# EAGLE library part BEAGLEBONE_CAPE (library beaglebone_cape)
Pin Header and Outlines for BeagleBone Black shield
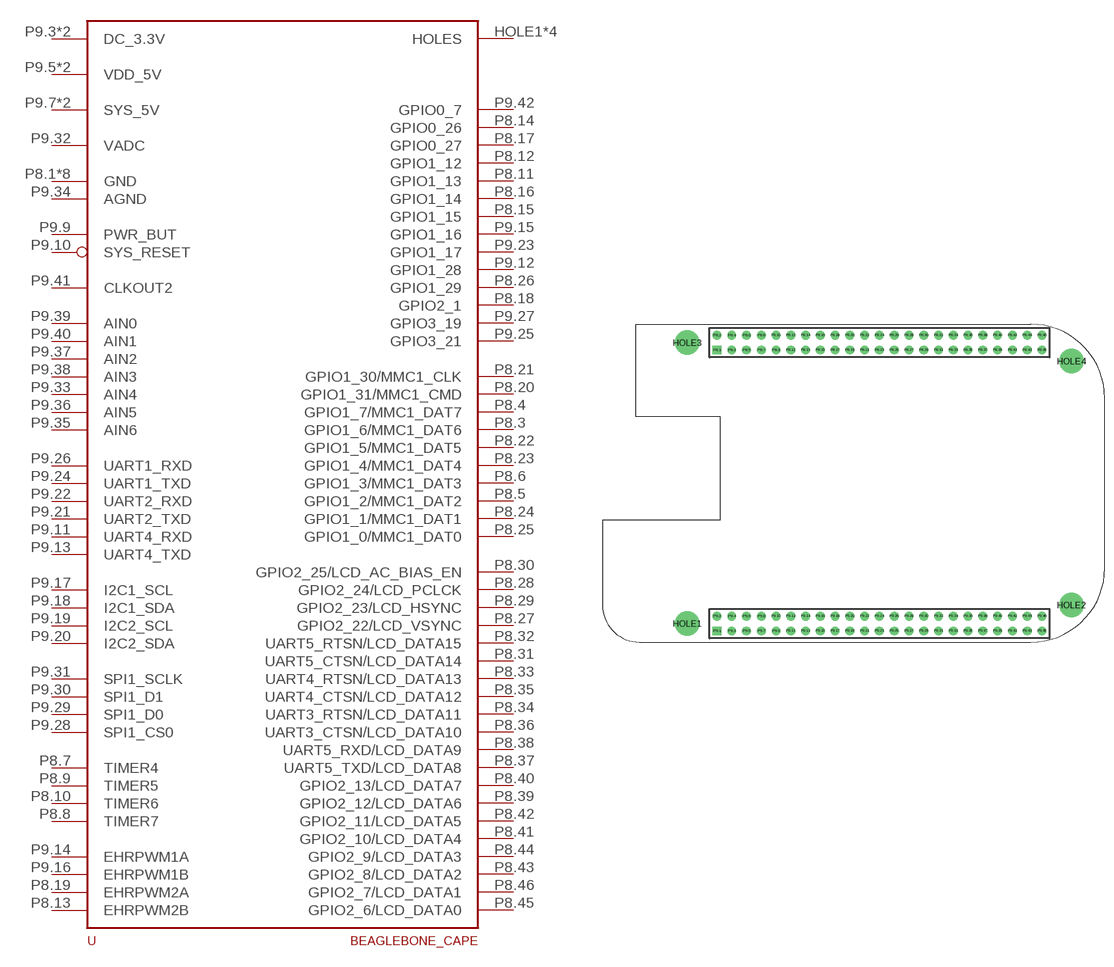
[diagram p0: symbol with the pads of BEAGLEBONE_CAPE; footprint BEAGLEBONE_CAPE]

Designator prefix -

## BEAGLEBONE_CAPE  [BEAGLEBONE_CAPE]
HOLE1  HOLES
HOLE2  HOLES
HOLE3  HOLES
HOLE4  HOLES
P8.1  GND  sup
P8.2  GND  sup
P8.3  GPIO1_6/MMC1_DAT6
P8.4  GPIO1_7/MMC1_DAT7
P8.5  GPIO1_2/MMC1_DAT2
P8.6  GPIO1_3/MMC1_DAT3
P8.7  TIMER4
P8.8  TIMER7
P8.9  TIMER5
P8.10  TIMER6
P8.11  GPIO1_13
P8.12  GPIO1_12
P8.13  EHRPWM2B
P8.14  GPIO0_26
P8.15  GPIO1_15
P8.16  GPIO1_14
P8.17  GPIO0_27
P8.18  GPIO2_1
P8.19  EHRPWM2A
P8.20  GPIO1_31/MMC1_CMD
P8.21  GPIO1_30/MMC1_CLK
P8.22  GPIO1_5/MMC1_DAT5
P8.23  GPIO1_4/MMC1_DAT4
P8.24  GPIO1_1/MMC1_DAT1
P8.25  GPIO1_0/MMC1_DAT0
P8.26  GPIO1_29
P8.27  GPIO2_22/LCD_VSYNC
P8.28  GPIO2_24/LCD_PCLCK
P8.29  GPIO2_23/LCD_HSYNC
P8.30  GPIO2_25/LCD_AC_BIAS_EN
P8.31  UART5_CTSN/LCD_DATA14
P8.32  UART5_RTSN/LCD_DATA15
P8.33  UART4_RTSN/LCD_DATA13
P8.34  UART3_RTSN/LCD_DATA11
P8.35  UART4_CTSN/LCD_DATA12
P8.36  UART3_CTSN/LCD_DATA10
P8.37  UART5_TXD/LCD_DATA8
P8.38  UART5_RXD/LCD_DATA9
P8.39  GPIO2_12/LCD_DATA6
P8.40  GPIO2_13/LCD_DATA7
P8.41  GPIO2_10/LCD_DATA4
P8.42  GPIO2_11/LCD_DATA5
P8.43  GPIO2_8/LCD_DATA2
P8.44  GPIO2_9/LCD_DATA3
P8.45  GPIO2_6/LCD_DATA0
P8.46  GPIO2_7/LCD_DATA1
P9.1  GND  sup
P9.2  GND  sup
P9.3  DC_3.3V  sup
P9.4  DC_3.3V  sup
P9.5  VDD_5V  sup
P9.6  VDD_5V  sup
P9.7  SYS_5V  sup
P9.8  SYS_5V  sup
P9.9  PWR_BUT  in
P9.10  SYS_RESET
P9.11  UART4_RXD
P9.12  GPIO1_28
P9.13  UART4_TXD
P9.14  EHRPWM1A
P9.15  GPIO1_16
P9.16  EHRPWM1B
P9.17  I2C1_SCL
P9.18  I2C1_SDA
P9.19  I2C2_SCL
P9.20  I2C2_SDA
P9.21  UART2_TXD
P9.22  UART2_RXD
P9.23  GPIO1_17
P9.24  UART1_TXD
P9.25  GPIO3_21
P9.26  UART1_RXD
P9.27  GPIO3_19
P9.28  SPI1_CS0
P9.29  SPI1_D0
P9.30  SPI1_D1
P9.31  SPI1_SCLK
P9.32  VADC  sup
P9.33  AIN4
P9.34  AGND  sup
P9.35  AIN6
P9.36  AIN5
P9.37  AIN2
P9.38  AIN3
P9.39  AIN0
P9.40  AIN1
P9.41  CLKOUT2
P9.42  GPIO0_7
P9.43  GND  sup
P9.44  GND  sup
P9.45  GND  sup
P9.46  GND  sup

## Footprint BEAGLEBONE_CAPE (pad centres in mm)
drill 3.2: HOLE1 14.605,3.175; HOLE2 80.645,6.35; HOLE3 14.605,51.435; HOLE4 80.645,48.26
drill 1 square: P8.1 19.685,50.165; P9.1 19.685,1.905
drill 1: P8.2 19.685,52.705; P8.3 22.225,50.165; P8.4 22.225,52.705; P8.5 24.765,50.165; P8.6 24.765,52.705; P8.7 27.305,50.165; P8.8 27.305,52.705; P8.9 29.845,50.165; P8.10 29.845,52.705; P8.11 32.385,50.165; P8.12 32.385,52.705; P8.13 34.925,50.165; P8.14 34.925,52.705; P8.15 37.465,50.165; P8.16 37.465,52.705; P8.17 40.005,50.165; P8.18 40.005,52.705; P8.19 42.545,50.165; P8.20 42.545,52.705; P8.21 45.085,50.165; P8.22 45.085,52.705; P8.23 47.625,50.165; P8.24 47.625,52.705; P8.25 50.165,50.165; P8.26 50.165,52.705; P8.27 52.705,50.165; P8.28 52.705,52.705; P8.29 55.245,50.165; P8.30 55.245,52.705; P8.31 57.785,50.165; P8.32 57.785,52.705; P8.33 60.325,50.165; P8.34 60.325,52.705; P8.35 62.865,50.165; P8.36 62.865,52.705; P8.37 65.405,50.165; P8.38 65.405,52.705; P8.39 67.945,50.165; P8.40 67.945,52.705; P8.41 70.485,50.165; P8.42 70.485,52.705; P8.43 73.025,50.165; P8.44 73.025,52.705; P8.45 75.565,50.165; P8.46 75.565,52.705; P9.2 19.685,4.445; P9.3 22.225,1.905; P9.4 22.225,4.445; P9.5 24.765,1.905; P9.6 24.765,4.445; P9.7 27.305,1.905; P9.8 27.305,4.445; P9.9 29.845,1.905; P9.10 29.845,4.445; P9.11 32.385,1.905; P9.12 32.385,4.445; P9.13 34.925,1.905; P9.14 34.925,4.445; P9.15 37.465,1.905; P9.16 37.465,4.445; P9.17 40.005,1.905; P9.18 40.005,4.445; P9.19 42.545,1.905; P9.20 42.545,4.445; P9.21 45.085,1.905; P9.22 45.085,4.445; P9.23 47.625,1.905; P9.24 47.625,4.445; P9.25 50.165,1.905; P9.26 50.165,4.445; P9.27 52.705,1.905; P9.28 52.705,4.445; P9.29 55.245,1.905; P9.30 55.245,4.445; P9.31 57.785,1.905; P9.32 57.785,4.445; P9.33 60.325,1.905; P9.34 60.325,4.445; P9.35 62.865,1.905; P9.36 62.865,4.445; P9.37 65.405,1.905; P9.38 65.405,4.445; P9.39 67.945,1.905; P9.40 67.945,4.445; P9.41 70.485,1.905; P9.42 70.485,4.445; P9.43 73.025,1.905; P9.44 73.025,4.445; P9.45 75.565,1.905; P9.46 75.565,4.445